# Altium schematic symbol library 按键开关.SchLib: 3 symbols
Pins are listed as number, name and electrical type; pins without a type are passive.

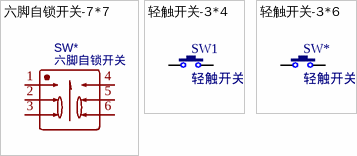
[diagram p0: symbols 六脚自锁开关-7*7 to 轻触开关-3*6]

## 六脚自锁开关-7*7
designator SW*, comment 六脚自锁开关
BOM_Manufacturer: XKB Enterprise; BOM_Manufacturer Part: XKB7070-Z-92; Contributor: LCSC; BOM_Supplier: LCSC; BOM_Supplier Part: C318862; BOM_JLCPCB Part Class: Extended Part; spicePre: S; spiceSymbolName: XKB7070-Z-92
footprint KFT DIP-7X7 (自锁开关，规格：7*7mm)
pins: 1, 2, 3, 4, 5, 6

## 轻触开关-3*4
designator SW1, comment 轻触开关
footprint ButtonTACT_3x4x2_180
pins: 1, 2

## 轻触开关-3*6
designator SW*, comment 轻触开关
footprint TSW SMD-3*6*2.5 (3*6*2.5mm)
pins: 1, 2